# Altium integrated library SMD-BUILT-IN-ANTENNA-2.4GHZ_2P-9.5X2.1MM_.IntLib: 1 symbol
Pins are listed as number, name and electrical type; pins without a type are passive.

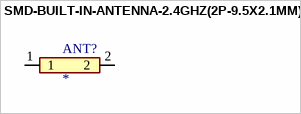
[diagram p0: symbol SMD-BUILT-IN-ANTENNA-2.4GHZ(2P-9.5X2.1MM)]

## SMD-BUILT-IN-ANTENNA-2.4GHZ(2P-9.5X2.1MM)
designator ANT?
318010004; MF: RainSun; MP: AN9520; Package: FakePackage u; SnapEDA_Link: https://www.snapeda.com/parts/AN9520/RainSun/view-part/106325/?ref=snap; Price: None; Check_prices: https://www.snapeda.com/parts/AN9520/RainSun/view-part/106325/?ref=eda; Value: *; Availability: No availability data
footprint ANT2-SMD-9.5X2.1X1.0MM
pins: 1 (io), 2 (io)